# Altium footprint library Rectangular Connectors - Headers, Male Pins.PcbLib: 14 footprints
Each footprint in its own frame and in the unit in brackets; x right, y up, seen from the top. Pads: shape width x height; smd on the part's side, far side on the other; paste and mask are expansions set on the pad; w line width, h text height; cw(c..) or ccw(c..) is an arc to the next point about the centre after c.
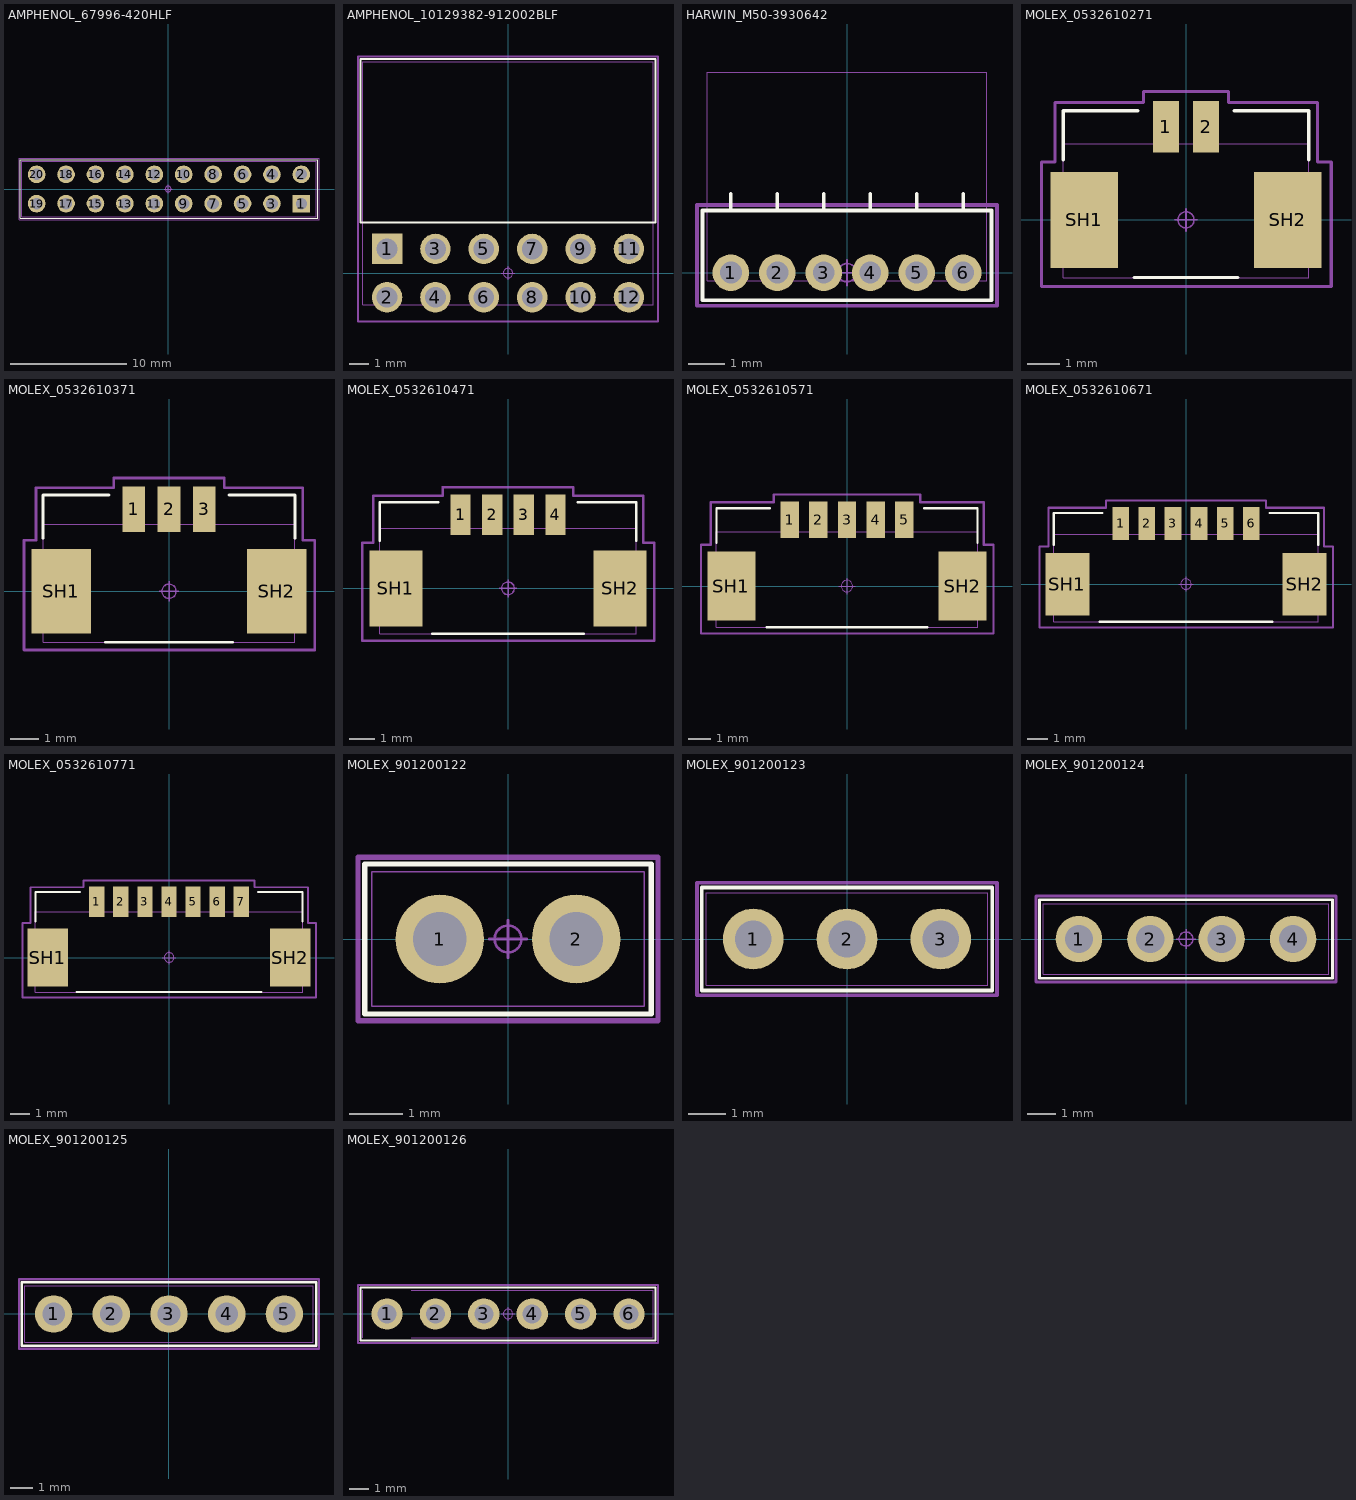
[diagram p0: the footprints below, top view; thin cyan lines are the x and y axes]

## AMPHENOL_67996-420HLF [mil]
pads (20):
  rect 60x60 hole 38 mask+0: 1(452.76,-50)
  round 60 hole 40 mask+0: 2(452.76,50) 3(352.76,-50) 4(352.76,50) 5(252.76,-50) 6(252.76,50) 7(152.76,-50) 8(152.76,50) 9(52.76,-50) 10(52.76,50) 11(-47.24,-50) 12(-47.24,50) 13(-147.24,-50) 14(-147.24,50) 15(-247.24,-50) 16(-247.24,50) 17(-347.24,-50) 18(-347.24,50) 19(-447.24,-50) 20(-447.24,50)
Top Overlay:
  lines w3.94: -502.24,-100 507.76,-100 507.76,100 -502.24,100 -502.24,-100
Mechanical 13:
  lines w1: -497.24,-95 502.76,-95 502.76,95 -497.24,95 -497.24,-95
Mechanical 15:
  circle w1.97: c0,0 r9.84
  lines w1.97: -13.78,0 13.78,0 ; 0,-13.78 0,13.78
  lines w3.94: -507.24,-105 -507.24,105 512.76,105 512.76,-105 -507.24,-105
3D body "67996-420HLF_AMP.step": height 350, standoff -200, extent -497.24,-100 502.76,100

## AMPHENOL_10129382-912002BLF [mil]
pads (12):
  rect 63x63 / inner round 60 / far side rect 63x63 hole 43 paste-99999 mask+0: 1(-250,50)
  round 63 / inner round 60 / far side round 63 hole 43 paste-99999 mask+0: 2(-250,-50) 3(-150,50) 4(-150,-50) 5(-50,50) 6(-50,-50) 7(50,50) 8(50,-50) 9(150,50) 10(150,-50) 11(250,50) 12(250,-50)
Top Overlay:
  lines w3.94: -305,105 305,105 305,442.72 -305,442.72 -305,105
Mechanical 13:
  lines w1: -300,-65 300,-65 300,437 -300,437 -300,-65
Mechanical 15:
  circle w1.97: c0,0 r9.84
  lines w1.97: -13.78,0 13.78,0 ; 0,-13.78 0,13.78
  lines w3.94: -310,-100 -310,447.64 310,447.64 310,-100 -310,-100
3D body "10129382-912002BLF.STEP": height 195.08, standoff -85.24, extent -300,-65 300,437.36

## HARWIN_M50-3930642 [mm]
pads (6):
  round 1 hole 0.6 mask+0: 1(-3.175,0) 2(-1.905,0) 3(-0.635,0) 4(0.635,0) 5(1.905,0) 6(3.175,0)
Top Overlay:
  lines w0.1: -3.175,1.702 -3.175,2.159 ; -1.905,1.702 -1.905,2.159 ; -0.635,1.702 -0.635,2.159 ; 0.635,1.702 0.635,2.159 ; 1.905,1.702 1.905,2.159 ; 3.175,1.702 3.175,2.159 ; -3.95,-0.75 3.95,-0.75 3.95,1.7 -3.95,1.7 -3.95,-0.75
Mechanical 13:
  lines w0.025: -3.825,-0.225 3.825,-0.225 3.825,5.475 -3.825,5.475 -3.825,-0.225
Mechanical 15:
  circle w0.05: c0,0 r0.25
  lines w0.05: -0.35,0 0.35,0 ; 0,-0.35 0,0.35
  lines w0.1: -4.1,-0.9 4.1,-0.9 4.1,1.85 -4.1,1.85 -4.1,-0.9
3D body "m50-3930642_asm.stp": height 2.1, standoff -2.4, extent -3.81,-0.225 3.81,5.475

## MOLEX_0532610271 [mm]
pads (4):
  rect 0.8x1.6 smd: 1(-0.625,2.9) 2(0.625,2.9)
  rect 2.1x3 smd: SH1(-3.175,0) SH2(3.175,0)
Top Overlay:
  lines w0.1: -3.825,1.875 -3.825,3.4 -1.5,3.4 ; -1.625,-1.8 1.625,-1.8 ; 1.5,3.4 3.825,3.4 3.825,1.875
Mechanical 13:
  lines w0.025: -3.825,-1.025 -2.775,-1.025 -2.775,1.025 -3.825,1.025 ; -0.925,2.375 -0.925,3.6 -0.325,3.6 -0.325,2.375 ; 0.325,2.375 0.325,3.6 0.925,3.6 0.925,2.375 ; 3.825,-1.025 2.775,-1.025 2.775,1.025 3.825,1.025 ; -3.825,-1.8 -3.825,2.375 3.825,2.375 3.825,-1.8 -3.825,-1.8
Mechanical 15:
  circle w0.05: c0,0 r0.25
  lines w0.05: -0.35,0 0.35,0 ; 0,-0.35 0,0.35
  lines w0.1: -4.079,3.654 -4.079,1.8 -4.5,1.8 -4.5,-2.075 4.525,-2.075 4.525,1.8 4.1,1.8 4.1,3.654 1.325,3.654 1.325,4 -1.325,4 ; -4.075,3.654 -1.329,3.654 -1.329,4
3D body "532610271_Tin.step": height 3.4, standoff 0, extent -3.825,-1.8 3.825,3.4

## MOLEX_0532610371 [mm]
pads (5):
  rect 0.8x1.6 smd: 1(-1.25,2.9) 2(0,2.9) 3(1.25,2.9)
  rect 2.1x3 smd: SH1(-3.8,0) SH2(3.8,0)
Top Overlay:
  lines w0.1: -4.45,1.875 -4.45,3.4 -2.125,3.4 ; -2.25,-1.8 2.25,-1.8 ; 2.125,3.4 4.45,3.4 4.45,1.875
Mechanical 13:
  lines w0.025: -4.45,-1.025 -3.4,-1.025 -3.4,1.025 -4.45,1.025 ; -1.55,2.375 -1.55,3.6 -0.95,3.6 -0.95,2.375 ; -0.3,2.375 -0.3,3.6 0.3,3.6 0.3,2.375 ; 0.95,2.375 0.95,3.6 1.55,3.6 1.55,2.375 ; 4.45,-1.025 3.4,-1.025 3.4,1.025 4.45,1.025 ; -4.45,-1.8 4.45,-1.8 4.45,2.375 -4.45,2.375 -4.45,-1.8
Mechanical 15:
  circle w0.05: c0,0 r0.25
  lines w0.05: -0.35,0 0.35,0 ; 0,-0.35 0,0.35
  lines w0.1: -4.704,3.654 -4.704,1.8 -5.125,1.8 -5.125,-2.075 5.15,-2.075 5.15,1.8 4.725,1.8 4.725,3.654 1.95,3.654 1.95,4 -1.95,4 ; -4.7,3.654 -1.954,3.654 -1.954,4
3D body "532610371.step": height 3.4, standoff 0, extent -4.45,-1.8 4.45,3.4

## MOLEX_0532610471 [mm]
pads (6):
  rect 0.8x1.6 smd: 1(-1.875,2.9) 2(-0.625,2.9) 3(0.625,2.9) 4(1.875,2.9)
  rect 2.1x3 smd: SH1(-4.425,0) SH2(4.425,0)
Top Overlay:
  lines w0.1: -5.075,1.875 -5.075,3.4 -2.75,3.4 ; -3,-1.8 3,-1.8 ; 2.75,3.4 5.075,3.4 5.075,1.875
Mechanical 13:
  lines w0.025: -5.075,-1.025 -4.025,-1.025 -4.025,1.025 -5.075,1.025 ; -2.175,2.375 -2.175,3.6 -1.575,3.6 -1.575,2.375 ; -0.925,2.375 -0.925,3.6 -0.325,3.6 -0.325,2.375 ; 0.325,2.375 0.325,3.6 0.925,3.6 0.925,2.375 ; 1.575,2.375 1.575,3.6 2.175,3.6 2.175,2.375 ; 5.075,-1.025 4.025,-1.025 4.025,1.025 5.075,1.025 ; -5.075,-1.8 -5.075,2.375 5.075,2.375 5.075,-1.8 -5.075,-1.8
Mechanical 15:
  circle w0.05: c0,0 r0.25
  lines w0.05: -0.35,0 0.35,0 ; 0,-0.35 0,0.35
  lines w0.1: -5.329,3.654 -5.329,1.8 -5.75,1.8 -5.75,-2.075 5.775,-2.075 5.775,1.8 5.35,1.8 5.35,3.654 2.575,3.654 2.575,4 -2.575,4 -2.579,3.996 -2.579,3.654 -5.325,3.654
3D body "532610471.step": height 3.4, standoff 0, extent -5.075,-1.8 5.075,3.4

## MOLEX_0532610571 [mm]
pads (7):
  rect 0.8x1.6 smd: 1(-2.5,2.9) 2(-1.25,2.9) 3(0,2.9) 4(1.25,2.9) 5(2.5,2.9)
  rect 2.1x3 smd: SH1(-5.05,0) SH2(5.05,0)
Top Overlay:
  lines w0.1: -5.7,1.875 -5.7,3.4 -3.375,3.4 ; -3.5,-1.8 3.5,-1.8 ; 3.375,3.4 5.7,3.4 5.7,1.875
Mechanical 13:
  lines w0.025: -5.7,-1.025 -4.65,-1.025 -4.65,1.025 -5.7,1.025 ; -2.8,2.375 -2.8,3.6 -2.2,3.6 -2.2,2.375 ; -1.55,2.375 -1.55,3.6 -0.95,3.6 -0.95,2.375 ; -0.3,2.375 -0.3,3.6 0.3,3.6 0.3,2.375 ; 0.95,2.375 0.95,3.6 1.55,3.6 1.55,2.375 ; 2.2,2.375 2.2,3.6 2.8,3.6 2.8,2.375 ; 5.7,-1.025 4.65,-1.025 4.65,1.025 5.7,1.025 ; -5.7,-1.8 5.7,-1.8 5.7,2.375 -5.7,2.375 -5.7,-1.8
Mechanical 15:
  circle w0.05: c0,0 r0.25
  lines w0.05: -0.35,0 0.35,0 ; 0,-0.35 0,0.35
  lines w0.1: -5.954,3.654 -5.954,1.8 -6.375,1.8 -6.375,-2.075 6.4,-2.075 6.4,1.8 5.975,1.8 5.975,3.654 3.2,3.654 3.2,4 -3.204,4 -3.204,3.654 -5.95,3.654
3D body "532610571 v2.step": height 3.4, standoff 0, extent -5.7,-1.8 5.7,3.4

## MOLEX_0532610671 [mm]
pads (8):
  rect 0.8x1.6 smd: 1(-3.125,2.9) 2(-1.875,2.9) 3(-0.625,2.9) 4(0.625,2.9) 5(1.875,2.9) 6(3.125,2.9)
  rect 2.1x3 smd: SH1(-5.675,0) SH2(5.675,0)
Top Overlay:
  lines w0.1: -6.325,1.875 -6.325,3.4 -4,3.4 ; -4.125,-1.8 4.125,-1.8 ; 4,3.4 6.325,3.4 6.325,1.875
Mechanical 13:
  lines w0.025: -6.325,-1.025 -5.275,-1.025 -5.275,1.025 -6.325,1.025 ; -3.425,2.375 -3.425,3.6 -2.825,3.6 -2.825,2.375 ; -2.175,2.375 -2.175,3.6 -1.575,3.6 -1.575,2.375 ; -0.925,2.375 -0.925,3.6 -0.325,3.6 -0.325,2.375 ; 0.325,2.375 0.325,3.6 0.925,3.6 0.925,2.375 ; 1.575,2.375 1.575,3.6 2.175,3.6 2.175,2.375 ; 2.825,2.375 2.825,3.6 3.425,3.6 3.425,2.375 ; 6.325,-1.025 5.275,-1.025 5.275,1.025 6.325,1.025 ; -6.325,-1.8 6.325,-1.8 6.325,2.375 -6.325,2.375 -6.325,-1.8
Mechanical 15:
  circle w0.05: c0,0 r0.25
  lines w0.05: -0.35,0 0.35,0 ; 0,-0.35 0,0.35
  lines w0.1: -6.579,3.654 -6.579,1.8 -7,1.8 -7,-2.075 7.025,-2.075 7.025,1.8 6.6,1.8 6.6,3.654 3.825,3.654 3.825,4 -3.829,4 -3.829,3.654 -6.575,3.654
3D body "532610671.step": height 3.4, standoff 0, extent -6.325,-1.8 6.325,3.4

## MOLEX_0532610771 [mm]
pads (9):
  rect 0.8x1.6 smd: 1(-3.75,2.9) 2(-2.5,2.9) 3(-1.25,2.9) 4(0,2.9) 5(1.25,2.9) 6(2.5,2.9) 7(3.75,2.9)
  rect 2.1x3 smd: SH1(-6.3,0) SH2(6.3,0)
Top Overlay:
  lines w0.1: -6.95,1.875 -6.95,3.4 -4.625,3.4 ; -4.8,-1.8 4.8,-1.8 ; 4.625,3.4 6.95,3.4 6.95,1.875
Mechanical 13:
  lines w0.025: -6.95,-1.025 -5.9,-1.025 -5.9,1.025 -6.95,1.025 ; -4.05,2.375 -4.05,3.6 -3.45,3.6 -3.45,2.375 ; -2.8,2.375 -2.8,3.6 -2.2,3.6 -2.2,2.375 ; -1.55,2.375 -1.55,3.6 -0.95,3.6 -0.95,2.375 ; -0.3,2.375 -0.3,3.6 0.3,3.6 0.3,2.375 ; 0.95,2.375 0.95,3.6 1.55,3.6 1.55,2.375 ; 2.2,2.375 2.2,3.6 2.8,3.6 2.8,2.375 ; 3.45,2.375 3.45,3.6 4.05,3.6 4.05,2.375 ; 6.95,-1.025 5.9,-1.025 5.9,1.025 6.95,1.025 ; -6.95,-1.8 -6.95,2.375 6.95,2.375 6.95,-1.8 -6.95,-1.8
Mechanical 15:
  circle w0.05: c0,0 r0.25
  lines w0.05: -0.35,0 0.35,0 ; 0,-0.35 0,0.35
  lines w0.1: -7.204,3.654 -7.204,1.8 -7.625,1.8 -7.625,-2.075 7.65,-2.075 7.65,1.8 7.225,1.8 7.225,3.654 4.45,3.654 4.45,4 -4.454,4 -4.454,3.654 -7.2,3.654
3D body "532610771.step": height 3.4, standoff 0, extent -6.95,-1.8 6.95,3.4

## MOLEX_901200122 [mm]
pads (2):
  round 1.65 hole 1 mask+0: 1(-1.27,0) 2(1.27,0)
Top Overlay:
  lines w0.1: -2.667,-1.397 2.667,-1.397 2.667,1.397 -2.667,1.397 -2.667,-1.397
Mechanical 13:
  lines w0.025: -2.54,-1.25 2.54,-1.25 2.54,1.25 -2.54,1.25 -2.54,-1.25
Mechanical 15:
  circle w0.05: c0,0 r0.25
  lines w0.05: -0.35,0 0.35,0 ; 0,-0.35 0,0.35
  lines w0.1: -2.794,-1.524 -2.794,1.524 2.794,1.524 2.794,-1.524 -2.794,-1.524
3D body "901200122.step": height 9.3, standoff -2.82, extent -2.54,-1.25 2.54,1.25

## MOLEX_901200123 [mm]
pads (3):
  round 1.65 hole 1 mask+0: 1(-2.54,0) 2(0,0) 3(2.54,0)
Top Overlay:
  lines w0.1: -3.937,-1.397 -3.937,1.397 3.937,1.397 3.937,-1.397 -3.937,-1.397
Mechanical 13:
  lines w0.025: -3.81,-1.25 -3.81,1.25 3.81,1.25 3.81,-1.25 -3.81,-1.25
Mechanical 15:
  circle w0.05: c0,0 r0.25
  lines w0.05: -0.35,0 0.35,0 ; 0,-0.35 0,0.35
  lines w0.1: -4.064,-1.524 4.064,-1.524 4.064,1.524 -4.064,1.524 -4.064,-1.524
3D body "901200123.step": height 9.3, standoff -2.82, extent -3.81,-1.25 3.81,1.25

## MOLEX_901200124 [mm]
pads (4):
  round 1.65 hole 1 mask+0: 1(-3.81,0) 2(-1.27,0) 3(1.27,0) 4(3.81,0)
Top Overlay:
  lines w0.1: -5.207,-1.397 5.207,-1.397 5.207,1.397 -5.207,1.397 -5.207,-1.397
Mechanical 13:
  lines w0.025: -5.08,-1.25 5.08,-1.25 5.08,1.25 -5.08,1.25 -5.08,-1.25
Mechanical 15:
  circle w0.05: c0,0 r0.25
  lines w0.05: -0.35,0 0.35,0 ; 0,-0.35 0,0.35
  lines w0.1: -5.334,-1.524 5.334,-1.524 5.334,1.524 -5.334,1.524 -5.334,-1.524
3D body "901200124.step": height 9.3, standoff -2.82, extent -5.08,-1.25 5.08,1.25

## MOLEX_901200125 [mm]
pads (5):
  round 1.65 hole 1 mask+0: 1(-5.08,0) 2(-2.54,0) 3(0,0) 4(2.54,0) 5(5.08,0)
Top Overlay:
  lines w0.1: -6.477,-1.397 -6.477,1.397 6.477,1.397 6.477,-1.397 -6.477,-1.397
Mechanical 13:
  lines w0.025: -6.35,-1.25 -6.35,1.25 6.35,1.25 6.35,-1.25 -6.35,-1.25
Mechanical 15:
  circle w0.05: c0,0 r0.25
  lines w0.05: -0.35,0 0.35,0 ; 0,-0.35 0,0.35
  lines w0.1: -6.604,-1.524 -6.604,1.524 6.604,1.524 6.604,-1.524 -6.604,-1.524
3D body "901200125.step": height 9.3, standoff -2.82, extent -6.35,-1.25 6.35,1.25

## MOLEX_901200126 [mm]
pads (6):
  round 1.65 hole 1 mask+0: 1(-6.35,0) 2(-3.81,0) 3(-1.27,0) 4(1.27,0) 5(3.81,0) 6(6.35,0)
Top Overlay:
  lines w0.1: -7.747,-1.397 7.747,-1.397 7.747,1.397 -7.747,1.397 -7.747,-1.397
Mechanical 13:
  lines w0.025: -7.62,-1.25 -7.62,1.25 ; -5.08,-1.25 7.62,-1.25 7.62,1.25 -5.08,1.25
Mechanical 15:
  circle w0.05: c0,0 r0.25
  lines w0.05: -0.35,0 0.35,0 ; 0,-0.35 0,0.35
  lines w0.1: -7.874,-1.524 7.874,-1.524 7.874,1.524 -7.874,1.524 -7.874,-1.524
3D body "901200126.step": height 9.3, standoff -2.82, extent -7.62,-1.25 7.62,1.25